# EAGLE library part 34830-0801 (library 34830-0801)
Automotive Connectors MX150 RA HDR 2X4 ST BLK KEY A Source: Datasheet
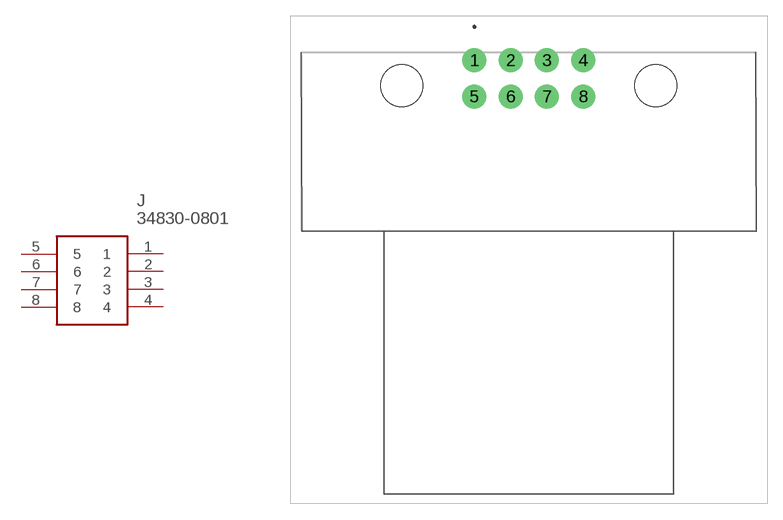
[diagram p0: symbol with the pads of 348300801; footprint 348300801]

Designator prefix J

## 34830-0801 (Description: Automotive Connectors MX150 RA HDR 2X4 ST BLK KEY A; Height: 25.88mm; Manufacturer_Name: Molex; Manufacturer_Part_Number: 34830-0801; Mouser_Part_Number: 538-34830-0801; Mouser_Price-Stock: https://www.mouser.co.uk/ProductDetail/Molex/34830-0801?qs=PdnAIJ6Mlf2HM0lerKt%252BjA%3D%3D)  [348300801]
1  1
2  2
3  3
4  4
5  5
6  6
7  7
8  8

## Footprint 348300801 (pad centres in mm)
34830-0801-4
drill 1.54 pad 2.31: 1 0,0; 2 3.5,0; 3 7,0; 4 10.5,0; 5 0,-3.5; 6 3.5,-3.5; 7 7,-3.5; 8 10.5,-3.5
hole 4.05 at -7,-2.46
hole 4.05 at 17.5,-2.46